# EAGLE library part 693071010811 (library USB3IO)
WR-CRD MICRO SD CARD CONNECTOR PUSH & PUSH WITH CARD DETECTION 8PINS=>Code : Con_I-O_COM_CRD_SD_Micro_693071010811 <http://katalog.we-online.de/media/images/eican/Con_I-O_COM_CRD_SD_Micro_693071010811_pf2.jpg> Details see: http://katalog.we-online.de/en/em/693_071_010_811 Created 2014-07-09, Karrer Zheng 2014 (C) Würth Elektronik
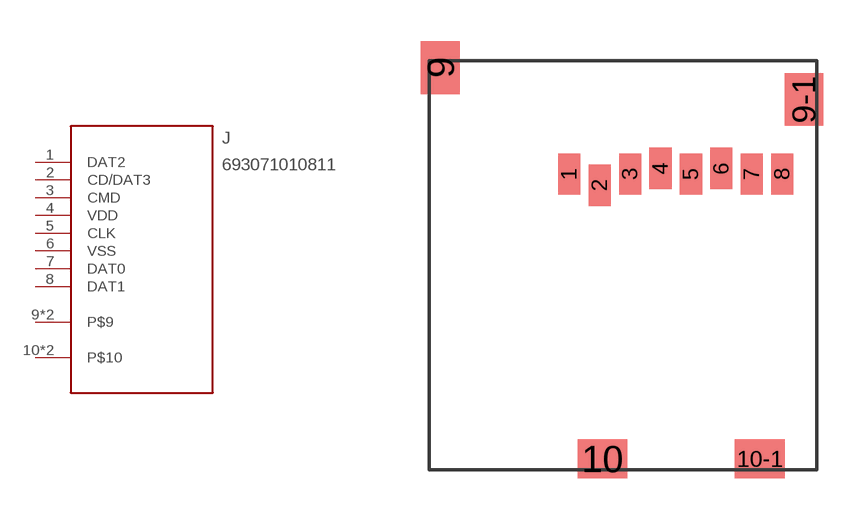
[diagram p95: symbol with the pads of 693071010811; footprint 693071010811]

Designator prefix J

## 693071010811  [693071010811]
1  DAT2
2  CD/DAT3
3  CMD
4  VDD
5  CLK
6  VSS
7  DAT0
8  DAT1
9  P$9
9-1  P$9
10  P$10
10-1  P$10

## Footprint 693071010811 (pad centres in mm)
WR-CRD MICRO SD CARD CONNECTOR PUSH & PUSH WITH CARD DETECTION 8PINS
smd 0.8 x 1.5: 1 0,0; 2 1.1,-0.4; 3 2.2,0; 4 3.3,0.2; 5 4.4,0; 6 5.5,0.2; 7 6.6,0; 8 7.7,0
smd 1.4 x 1.9: 9 -4.66,3.85; 9-1 8.49,2.7
smd 1.8 x 1.4: 10 1.2,-10.3; 10-1 6.89,-10.3